# Altium integrated library phoenix_contact.IntLib: 15 symbols
Pins are listed as number, name and electrical type; pins without a type are passive.

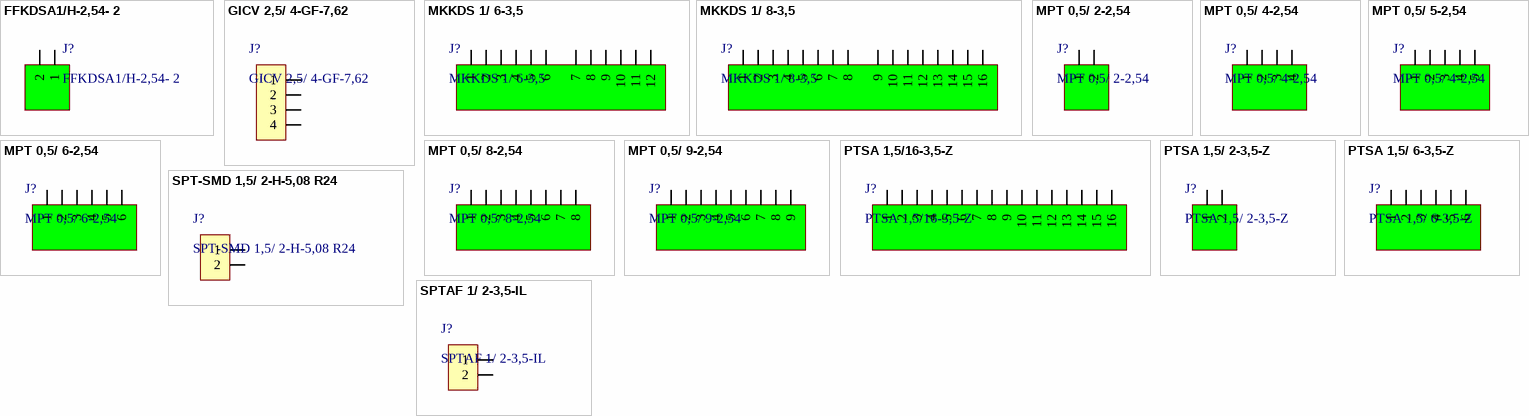
[diagram p0: symbols FFKDSA1/H-2,54- 2 to SPTAF 1/ 2-3,5-IL]

## FFKDSA1/H-2,54- 2
designator J?
footprint FFKDSA1/H-2,54- 2 (1792511)
pins: 1, 2

## GICV 2,5/ 4-GF-7,62
designator J?
1859111
footprint GICV 2,5/ 4-GF-7,62
pins: 1, 2, 3, 4

## MKKDS 1/ 6-3,5
designator J?
footprint MKKDS 1/ 6-3,5 (1751439)
pins: 1, 2, 3, 4, 5, 6, 7, 8, 9, 10, 11, 12

## MKKDS 1/ 8-3,5
designator J?
footprint MKKDS 1/ 8-3,5 (1751455)
pins: 1, 2, 3, 4, 5, 6, 7, 8, 9, 10, 11, 12, 13, 14, 15, 16

## MPT 0,5/ 2-2,54
designator J?
footprint MPT 0,5/ 2-2,54 (1725656)
pins: 1, 2

## MPT 0,5/ 4-2,54
designator J?
footprint MPT 0,5/ 4-2,54 (1725672)
pins: 1, 2, 3, 4

## MPT 0,5/ 5-2,54
designator J?, comment MPT 0,5/ 4-2,54
footprint MPT 0,5/ 5-2,54 (1725685)
pins: 1, 2, 3, 4, 5

## MPT 0,5/ 6-2,54
designator J?
footprint MPT 0,5/ 6-2,54 (1725698)
pins: 1, 2, 3, 4, 5, 6

## MPT 0,5/ 8-2,54
designator J?
footprint MPT 0,5/ 8-2,54 (1725711)
pins: 1, 2, 3, 4, 5, 6, 7, 8

## MPT 0,5/ 9-2,54
designator J?
footprint MPT 0,5/ 9-2,54 (1725724)
pins: 1, 2, 3, 4, 5, 6, 7, 8, 9

## PTSA 1,5/16-3,5-Z
designator J?
footprint PTSA 1,5/22-3,5-F (1985166)
pins: 1, 2, 3, 4, 5, 6, 7, 8, 9, 10, 11, 12, 13, 14, 15, 16

## PTSA 1,5/ 2-3,5-Z
designator J?
footprint PTSA 1,5/ 2-3,5-Z (1985195)
pins: 1, 2

## PTSA 1,5/ 6-3,5-Z
designator J?
footprint PTSA 1,5/ 6-3,5-Z (1985234)
pins: 1, 2, 3, 4, 5, 6

## SPT-SMD 1,5/ 2-H-5,08 R24
designator J?
1824857
footprint SPT-SMD 1,5/ 2-H-5,08 R24
pins: 1, 2

## SPTAF 1/ 2-3,5-IL
designator J?
1861933
footprint SPTAF 1/ 2-3,5-IL (1861933)
pins: 1, 2